# EAGLE library part QUALIFIED_1_OVERO (library rgb_cube)
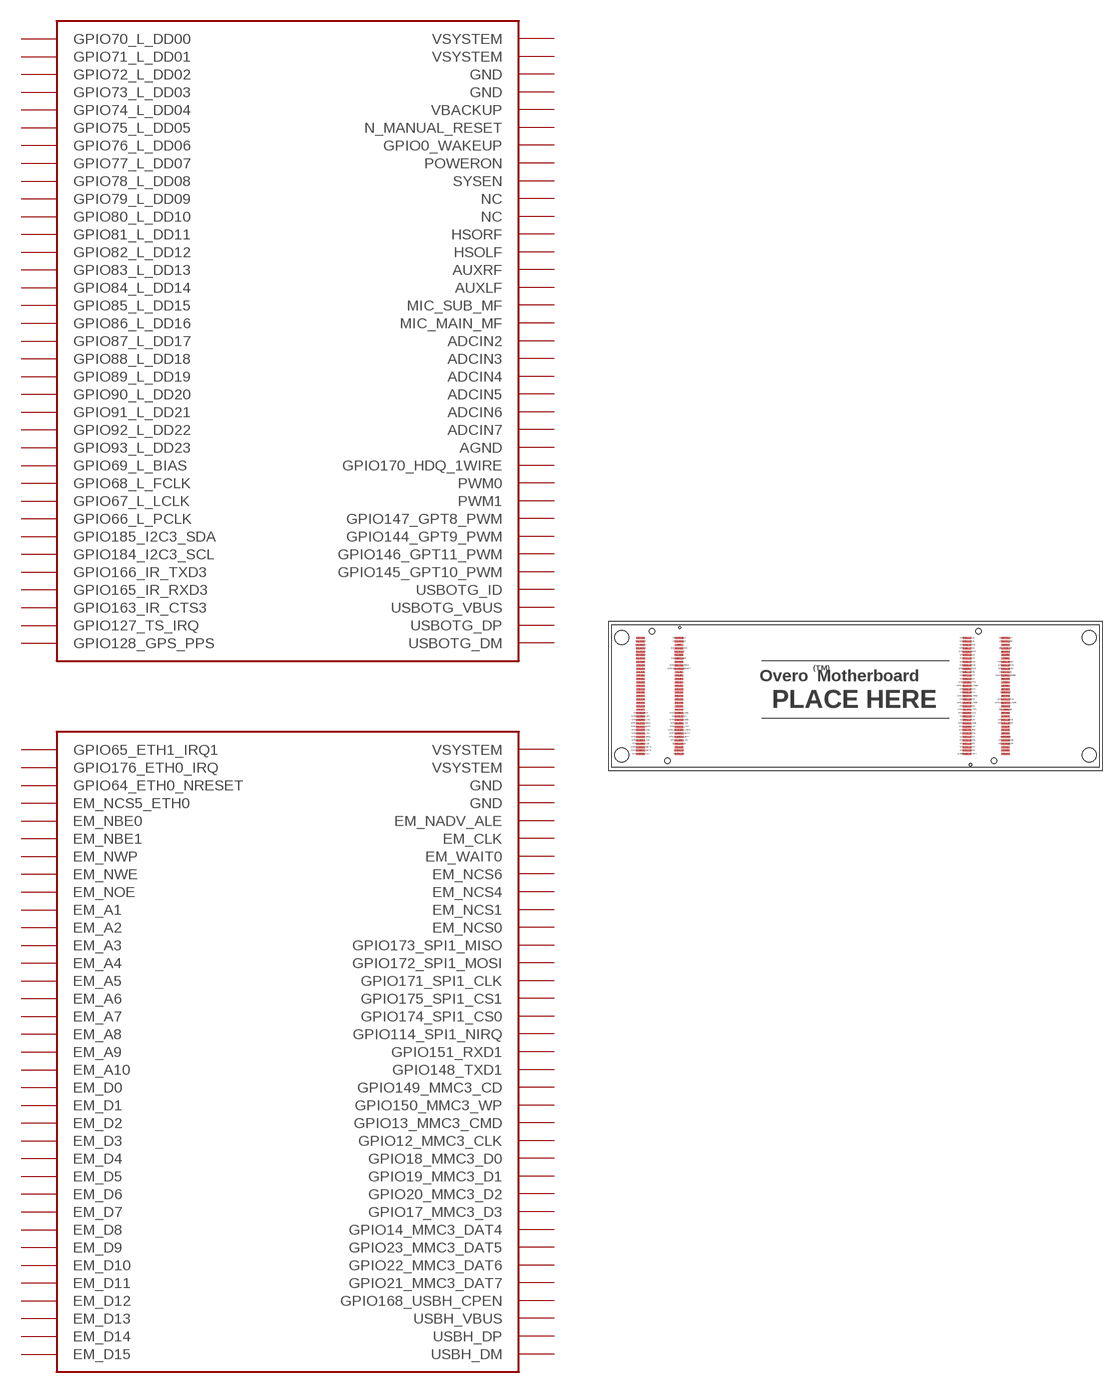
[diagram p53: symbol with the pads of QUALIFIED_1_OVERO; footprint QUALIFIED_1_OVERO]

Designator prefix -

## QUALIFIED_1_OVERO  [QUALIFIED_1_OVERO]
ADCIN2  ADCIN2
ADCIN3  ADCIN3
ADCIN4  ADCIN4
ADCIN5  ADCIN5
ADCIN6  ADCIN6
ADCIN7  ADCIN7
AGND  AGND
AUXLF  AUXLF
AUXRF  AUXRF
EM_A1  EM_A1
EM_A2  EM_A2
EM_A3  EM_A3
EM_A4  EM_A4
EM_A5  EM_A5
EM_A6  EM_A6
EM_A7  EM_A7
EM_A8  EM_A8
EM_A9  EM_A9
EM_A10  EM_A10
EM_CLK  EM_CLK
EM_D0  EM_D0
EM_D1  EM_D1
EM_D2  EM_D2
EM_D3  EM_D3
EM_D4  EM_D4
EM_D5  EM_D5
EM_D6  EM_D6
EM_D7  EM_D7
EM_D8  EM_D8
EM_D9  EM_D9
EM_D10  EM_D10
EM_D11  EM_D11
EM_D12  EM_D12
EM_D13  EM_D13
EM_D14  EM_D14
EM_D15  EM_D15
EM_NADV_ALE  EM_NADV_ALE
EM_NBE0  EM_NBE0
EM_NBE1  EM_NBE1
EM_NCS0  EM_NCS0
EM_NCS1  EM_NCS1
EM_NCS4  EM_NCS4
EM_NCS5_ETH0  EM_NCS5_ETH0
EM_NCS6  EM_NCS6
EM_NOE  EM_NOE
EM_NWE  EM_NWE
EM_NWP  EM_NWP
EM_WAIT0  EM_WAIT0
GND  GND
GND@33  GND
GND@56  GND
GND@70  GND
GPIO0_WAKEUP  GPIO0_WAKEUP
GPIO12_MMC3_CLK  GPIO12_MMC3_CLK
GPIO13_MMC3_CMD  GPIO13_MMC3_CMD
GPIO14_MMC3_DAT4  GPIO14_MMC3_DAT4
GPIO17_MMC3_D3  GPIO17_MMC3_D3
GPIO18_MMC3_D0  GPIO18_MMC3_D0
GPIO19_MMC3_D1  GPIO19_MMC3_D1
GPIO20_MMC3_D2  GPIO20_MMC3_D2
GPIO21_MMC3_DAT7  GPIO21_MMC3_DAT7
GPIO22_MMC3_DAT6  GPIO22_MMC3_DAT6
GPIO23_MMC3_DAT5  GPIO23_MMC3_DAT5
GPIO64_ETH0_NRESET  GPIO64_ETH0_NRESET
GPIO65_ETH1_IRQ1  GPIO65_ETH1_IRQ1
GPIO66_L_PCLK  GPIO66_L_PCLK
GPIO67_L_LCLK  GPIO67_L_LCLK
GPIO68_L_FCLK  GPIO68_L_FCLK
GPIO69_L_BIAS  GPIO69_L_BIAS
GPIO70_L_DD00  GPIO70_L_DD00
GPIO71_L_DD01  GPIO71_L_DD01
GPIO72_L_DD02  GPIO72_L_DD02
GPIO73_L_DD03  GPIO73_L_DD03
GPIO74_L_DD04  GPIO74_L_DD04
GPIO75_L_DD05  GPIO75_L_DD05
GPIO76_L_DD06  GPIO76_L_DD06
GPIO77_L_DD07  GPIO77_L_DD07
GPIO78_L_DD08  GPIO78_L_DD08
GPIO79_L_DD09  GPIO79_L_DD09
GPIO80_L_DD10  GPIO80_L_DD10
GPIO81_L_DD11  GPIO81_L_DD11
GPIO82_L_DD12  GPIO82_L_DD12
GPIO83_L_DD13  GPIO83_L_DD13
GPIO84_L_DD14  GPIO84_L_DD14
GPIO85_L_DD15  GPIO85_L_DD15
GPIO86_L_DD16  GPIO86_L_DD16
GPIO87_L_DD17  GPIO87_L_DD17
GPIO88_L_DD18  GPIO88_L_DD18
GPIO89_L_DD19  GPIO89_L_DD19
GPIO90_L_DD20  GPIO90_L_DD20
GPIO91_L_DD21  GPIO91_L_DD21
GPIO92_L_DD22  GPIO92_L_DD22
GPIO93_L_DD23  GPIO93_L_DD23
GPIO114_SPI1_NIRQ  GPIO114_SPI1_NIRQ
GPIO127_TS_IRQ  GPIO127_TS_IRQ
GPIO128_GPS_PPS  GPIO128_GPS_PPS
GPIO144_GPT9_PWM  GPIO144_GPT9_PWM
GPIO145_GPT10_PWM  GPIO145_GPT10_PWM
GPIO146_GPT11_PWM  GPIO146_GPT11_PWM
GPIO147_GPT8_PWM  GPIO147_GPT8_PWM
GPIO148_TXD1  GPIO148_TXD1
GPIO149_MMC3_CD  GPIO149_MMC3_CD
GPIO150_MMC3_WP  GPIO150_MMC3_WP
GPIO151_RXD1  GPIO151_RXD1
GPIO163_IR_CTS3  GPIO163_IR_CTS3
GPIO165_IR_RXD3  GPIO165_IR_RXD3
GPIO166_IR_TXD3  GPIO166_IR_TXD3
GPIO168_USBH_CPEN  GPIO168_USBH_CPEN
GPIO170_HDQ_1WIRE  GPIO170_HDQ_1WIRE
GPIO171_SPI1_CLK  GPIO171_SPI1_CLK
GPIO172_SPI1_MOSI  GPIO172_SPI1_MOSI
GPIO173_SPI1_MISO  GPIO173_SPI1_MISO
GPIO174_SPI1_CS0  GPIO174_SPI1_CS0
GPIO175_SPI1_CS1  GPIO175_SPI1_CS1
GPIO176_ETH0_IRQ  GPIO176_ETH0_IRQ
GPIO184_I2C3_SCL  GPIO184_I2C3_SCL
GPIO185_I2C3_SDA  GPIO185_I2C3_SDA
HSOLF  HSOLF
HSORF  HSORF
MIC_MAIN_MF  MIC_MAIN_MF
MIC_SUB_MF  MIC_SUB_MF
N_MANUAL_RESET  N_MANUAL_RESET
NC@62  NC
NC@63  NC
POWERON  POWERON
PWM0  PWM0
PWM1  PWM1
SYSEN  SYSEN
USBH_DM  USBH_DM
USBH_DP  USBH_DP
USBH_VBUS  USBH_VBUS
USBOTG_DM  USBOTG_DM
USBOTG_DP  USBOTG_DP
USBOTG_ID  USBOTG_ID
USBOTG_VBUS  USBOTG_VBUS
VBACKUP  VBACKUP
VSYSTEM@1  VSYSTEM
VSYSTEM@2  VSYSTEM
VSYSTEM@66  VSYSTEM
VSYSTEM@67  VSYSTEM

## Footprint QUALIFIED_1_OVERO (pad centres in mm)
smd 1 x 0.23: ADCIN2 17.6,-2; ADCIN3 17.6,2; ADCIN4 17.6,5.2; ADCIN5 17.6,0.8; ADCIN6 17.6,0; ADCIN7 17.6,-4.4; AGND 17.6,1.2; AUXLF 17.6,6; AUXRF 17.6,4.8; EM_A1 -25.2,2; EM_A2 -20.7,2.8; EM_A3 -25.2,2.4; EM_A4 -25.2,3.2; EM_A5 -20.7,2; EM_A6 -25.2,1.6; EM_A7 -20.7,1.6; EM_A8 -20.7,2.4; EM_A9 -25.2,3.6; EM_A10 -25.2,2.8; EM_CLK -25.2,6.8; EM_D0 -25.2,1.2; EM_D1 -25.2,0; EM_D2 -20.7,1.2; EM_D3 -20.7,0.4; EM_D4 -20.7,-0.4; EM_D5 -20.7,-1.2; EM_D6 -25.2,-0.8; EM_D7 -25.2,-1.6; EM_D8 -25.2,0.4; EM_D9 -25.2,0.8; EM_D10 -20.7,0.8; EM_D11 -20.7,0; EM_D12 -20.7,-0.8; EM_D13 -25.2,-0.4; EM_D14 -25.2,-1.2; EM_D15 -20.7,-1.6; EM_NADV_ALE -20.7,4.4; EM_NBE0 -25.2,4.8; EM_NBE1 -25.2,6.4; EM_NCS0 -25.2,5.2; EM_NCS1 -25.2,4.4; EM_NCS4 -20.7,5.2; EM_NCS5_ETH0 -20.7,5.6; EM_NCS6 -25.2,5.6; EM_NOE -20.7,4; EM_NWE -20.7,4.8; EM_NWP -25.2,4; EM_WAIT0 -25.2,6; GND -20.7,6; GND@33 -20.7,-6; GND@56 17.6,-1.2; GND@70 17.6,-6.8; GPIO0_WAKEUP 13.1,-3.6; GPIO12_MMC3_CLK -25.2,-5.2; GPIO13_MMC3_CMD -20.7,-2; GPIO14_MMC3_DAT4 -20.7,-4.4; GPIO17_MMC3_D3 -20.7,-5.2; GPIO18_MMC3_D0 -20.7,-3.2; GPIO19_MMC3_D1 -25.2,-6.8; GPIO20_MMC3_D2 -25.2,-5.6; GPIO21_MMC3_DAT7 -20.7,-4.8; GPIO22_MMC3_DAT6 -25.2,-6.4; GPIO23_MMC3_DAT5 -25.2,-6; GPIO64_ETH0_NRESET -20.7,3.2; GPIO65_ETH1_IRQ1 -20.7,3.6; GPIO66_L_PCLK 13.1,5.6; GPIO67_L_LCLK 13.1,6.8; GPIO68_L_FCLK 13.1,6.4; GPIO69_L_BIAS 17.6,4; GPIO70_L_DD00 13.1,-6; GPIO71_L_DD01 13.1,-6.4; GPIO72_L_DD02 13.1,-4.8; GPIO73_L_DD03 13.1,-5.6; GPIO74_L_DD04 13.1,-4.4; GPIO75_L_DD05 13.1,-5.2; GPIO76_L_DD06 13.1,6; GPIO77_L_DD07 13.1,4.4; GPIO78_L_DD08 13.1,4.8; GPIO79_L_DD09 13.1,4; GPIO80_L_DD10 13.1,-2.8; GPIO81_L_DD11 13.1,-2.4; GPIO82_L_DD12 17.6,-2.8; GPIO83_L_DD13 13.1,-0.4; GPIO84_L_DD14 13.1,0.4; GPIO85_L_DD15 13.1,0.8; GPIO86_L_DD16 17.6,3.6; GPIO87_L_DD17 13.1,2.4; GPIO88_L_DD18 13.1,2.8; GPIO89_L_DD19 13.1,3.6; GPIO90_L_DD20 17.6,3.2; GPIO91_L_DD21 13.1,2; GPIO92_L_DD22 13.1,-1.2; GPIO93_L_DD23 17.6,-3.2; GPIO114_SPI1_NIRQ -25.2,-4.8; GPIO127_TS_IRQ 13.1,-4; GPIO128_GPS_PPS 13.1,-1.6; GPIO144_GPT9_PWM 13.1,0; GPIO145_GPT10_PWM 17.6,-0.8; GPIO146_GPT11_PWM 13.1,1.2; GPIO147_GPT8_PWM 13.1,-0.8; GPIO148_TXD1 -20.7,-2.4; GPIO149_MMC3_CD -25.2,-2.8; GPIO150_MMC3_WP -25.2,-2.4; GPIO151_RXD1 -25.2,-2; GPIO163_IR_CTS3 13.1,1.6; GPIO165_IR_RXD3 13.1,5.2; GPIO166_IR_TXD3 13.1,3.2; GPIO168_USBH_CPEN -20.7,-4; GPIO170_HDQ_1WIRE 17.6,2.4; GPIO171_SPI1_CLK -25.2,-4; GPIO172_SPI1_MOSI -25.2,-3.6; GPIO173_SPI1_MISO -25.2,-3.2; GPIO174_SPI1_CS0 -20.7,-3.6; GPIO175_SPI1_CS1 -25.2,-4.4; GPIO176_ETH0_IRQ -20.7,-2.8; GPIO184_I2C3_SCL 13.1,-2; GPIO185_I2C3_SDA 13.1,-3.2; HSOLF 17.6,-6; HSORF 17.6,-6.4; MIC_MAIN_MF 17.6,-1.6; MIC_SUB_MF 17.6,5.6; N_MANUAL_RESET 13.1,-6.8; NC@62 17.6,-3.6; NC@63 17.6,-4; POWERON 17.6,-4.8; PWM0 17.6,4.4; PWM1 17.6,1.6; SYSEN 17.6,-2.4; USBH_DM -20.7,-6.8; USBH_DP -20.7,-6.4; USBH_VBUS -20.7,-5.6; USBOTG_DM 17.6,6.4; USBOTG_DP 17.6,6.8; USBOTG_ID 17.6,2.8; USBOTG_VBUS 17.6,-0.4; VBACKUP 17.6,0.4; VSYSTEM@1 -20.7,6.8; VSYSTEM@2 -20.7,6.4; VSYSTEM@66 17.6,-5.2; VSYSTEM@67 17.6,-5.6
hole 1.65 at 27.4,6.9
hole 1.65 at 27.4,-6.9
hole 0.65 at -23.85,7.6
hole 0.65 at -22.05,-7.6
hole 0.65 at 14.45,7.6
hole 0.65 at 16.25,-7.6
hole 1.65 at -27.4,6.9
hole 1.65 at -27.4,-6.9